# EAGLE library part CV_MODULE (library synth)
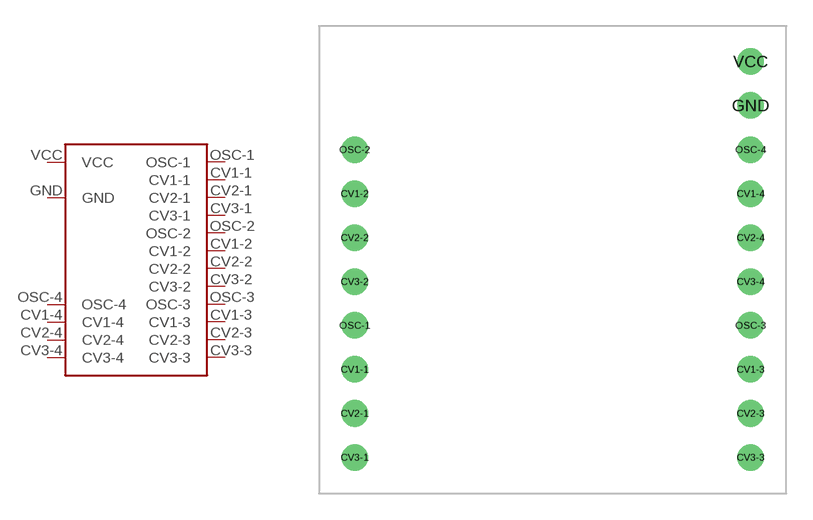
[diagram p7: symbol with the pads of CV_MODULE; footprint CV_MODULE]

Designator prefix -

## CV_MODULE  [CV_MODULE]
CV1-1  CV1-1
CV1-2  CV1-2
CV1-3  CV1-3
CV1-4  CV1-4
CV2-1  CV2-1
CV2-2  CV2-2
CV2-3  CV2-3
CV2-4  CV2-4
CV3-1  CV3-1
CV3-2  CV3-2
CV3-3  CV3-3
CV3-4  CV3-4
GND  GND
OSC-1  OSC-1
OSC-2  OSC-2
OSC-3  OSC-3
OSC-4  OSC-4
VCC  VCC

## Footprint CV_MODULE (pad centres in mm)
drill 1.02: CV1-1 2.07,7.17; CV1-2 2.07,17.32; CV1-3 24.93,7.17; CV1-4 24.93,17.32; CV2-1 2.07,4.63; CV2-2 2.07,14.78; CV2-3 24.93,4.63; CV2-4 24.93,14.78; CV3-1 2.07,2.09; CV3-2 2.07,12.24; CV3-3 24.93,2.09; CV3-4 24.93,12.24; GND 24.93,22.4; OSC-1 2.07,9.71; OSC-2 2.07,19.86; OSC-3 24.93,9.71; OSC-4 24.93,19.86; VCC 24.93,24.94